# Altium footprint library PcbLib1.PcbLib: 3 footprints
Each footprint in its own frame and in the unit in brackets; x right, y up, seen from the top. Pads: shape width x height; smd on the part's side, far side on the other; paste and mask are expansions set on the pad; w line width, h text height; cw(c..) or ccw(c..) is an arc to the next point about the centre after c.
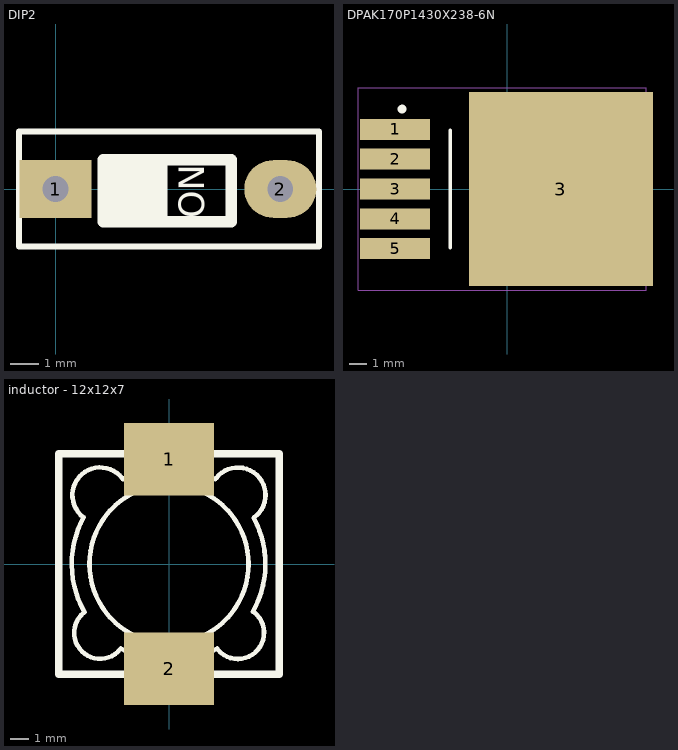
[diagram p0: the footprints below, top view; thin cyan lines are the x and y axes]

## DIP2 [mm]
pads (2):
  rect 2.5x2 hole 0.9: 1(0,0)
  oval 2.5x2 hole 0.9: 2(7.8,0)
Top Overlay:
  rectangle: 1.651,-1.143 3.683,1.016
  lines w0.2: -1.27,-2 9.144,-2 9.144,2 3.275,2 -1.27,2 -1.27,-2
  lines w0.4: 3.683,-1.143 3.683,1.016 3.873,1.016 ; 1.651,-1.143 1.651,1.016 6.096,1.016 6.096,-1.143 1.651,-1.143
  text "ON" at 5.461,-1.016 h1.52

## DPAK170P1430X238-6N [mm] "D2-PAK, 6-Pads, Body 6.20x6.72mm (max), IPC Medium Density"
height 2.38
pads (6):
  rect 4x1.2 smd: 1(-6.4,3.4) 2(-6.4,1.7) 3(-6.4,0) 4(-6.4,-1.7) 5(-6.4,-3.4)
  rect 10.5x11.05 smd: 3(3.048,0)
Top Overlay:
  circle w0.25: c-6,4.55 r0.125
  lines w0.2: -3.25,-3.35 -3.25,3.35
Mechanical 13:
  lines w0.1: -2.05,-3.35 -2.05,3.35 4.15,3.35 4.15,-3.35 -2.05,-3.35
Mechanical 15:
  lines w0.05: -8.509,-5.775 -8.509,5.775 7.9,5.775 7.9,-5.775 -8.509,-5.775
  lines w0.1: -0.5,0 0.5,0 ; 0,-0.5 0,0.5
3D body: height 2.38, standoff 0, extent -2.05,-3.35 4.15,3.35

## inductor - 12x12x7 [mm]
pads (2):
  rect 5x4 smd: 1(0,5.8) 2(0,-5.8)
Top Overlay:
  circle w0.254: c0,0 r4.401
  lines w0.254: -4.752,2.599 cw(c-3.81,3.81) -2.595,4.747 ; -4.722,2.582 ccw(c0,0) -4.675,-2.666 ; -4.692,-2.676 ccw(c-3.81,-3.81) -2.688,-4.708 ; -2.669,-4.674 ccw(c0,0) 2.667,-4.675 ; -2.565,4.692 cw(c0,0) 2.57,4.689 ; 2.603,4.749 cw(c3.81,3.81) 4.687,2.557 ; 2.711,-4.752 ccw(c3.81,-3.81) 4.715,-2.679 ; 4.639,-2.636 ccw(c0,0) 4.684,2.555
  lines w0.4: -6.1,-6.1 -6.1,6.1 6.1,6.1 6.1,-6.1 -6.1,-6.1